# Altium footprint library WRTU.PcbLib: 55 footprints (part 2 of 4)
Each footprint in its own frame and in the unit in brackets; x right, y up, seen from the top. Pads: shape width x height; smd on the part's side, far side on the other; paste and mask are expansions set on the pad; w line width, h text height; cw(c..) or ccw(c..) is an arc to the next point about the centre after c.
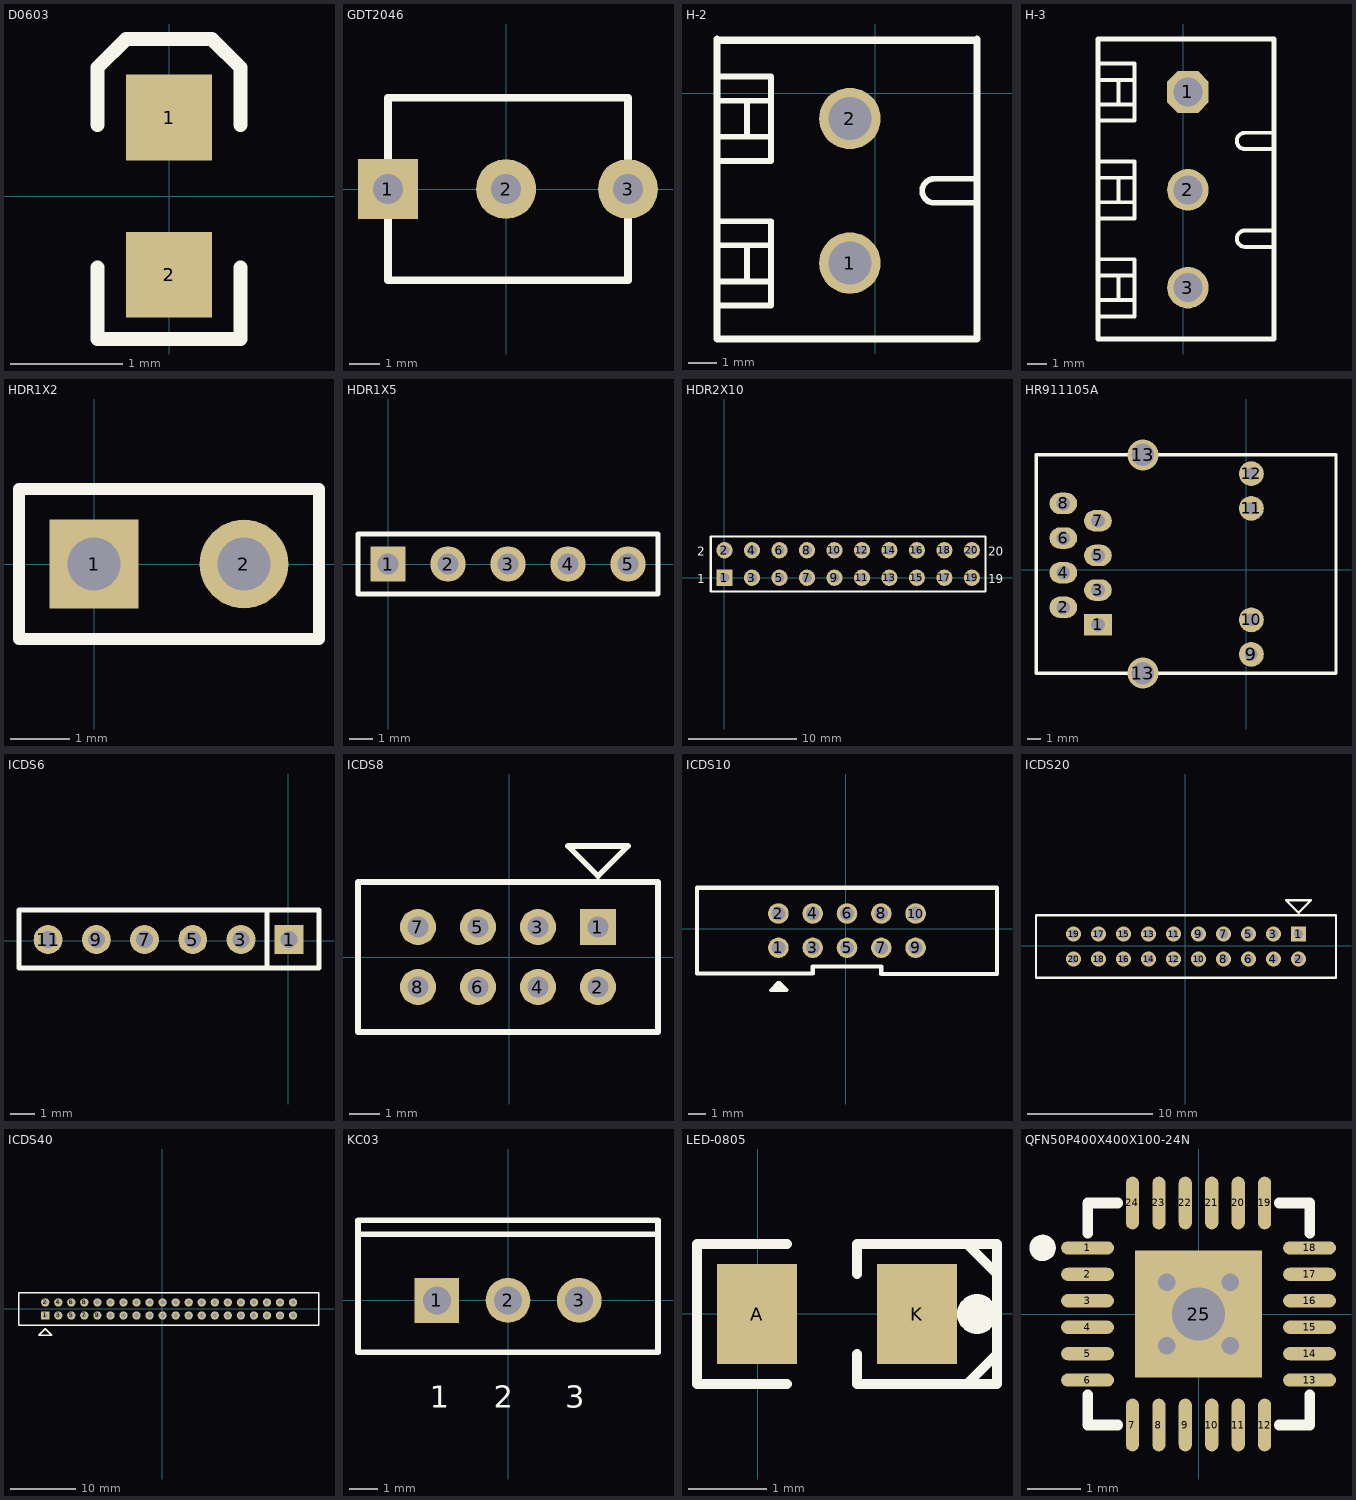
[diagram p1: the footprints below, top view; thin cyan lines are the x and y axes]

## D0603 [mil]
pads (2):
  rect 30x30 smd: 1(0,27.5) 2(0,-27.5)
Top Overlay:
  lines w5: -25,-25 -25,-50 25,-50 25,-25 ; -25,25 -25,45 -15,55 15,55 25,45 25,25

## GDT2046 [mm]
pads (3):
  rect 2x2 hole 1: 1(-3.937,0)
  round 2 hole 1: 2(0,0) 3(4.064,0)
Top Overlay:
  lines w0.254: -3.937,-3.048 -3.937,3.048 4.064,3.048 4.064,-3.048 -3.937,-3.048

## H-2 [mil]
pads (2):
  round 85 hole 59.49: 1(-35,-235) 2(-35,-35)
Top Overlay:
  lines w8: -219,-293.67 -144,-293.67 -144,-177 -219,-177 ; -219,-260.33 -144,-260.33 ; -219,-210.33 -144,-210.33 ; -219,-93.67 -144,-93.67 -144,23 -219,23 ; -219,-60.33 -144,-60.33 ; -219,-10.33 -144,-10.33 ; -177.33,-260.33 -177.33,-210.33 ; -177.33,-60.33 -177.33,-10.33 ; 140,-151.67 81.67,-151.67 cw(c81.67,-135) 81.67,-118.33 140,-118.33
  lines w10: -219,73.33 140,73.33 ; -219,75 -219,-340 140,-340 ; 141,-340 141,75

## H-3 [mil]
pads (3):
  oct 85x85 hole 59.49: 1(10,1425)
  round 85 hole 59.49: 2(10,1225) 3(10,1025)
Top Overlay:
  lines w8: -174,966.33 -99,966.33 -99,1083 -174,1083 ; -174,999.67 -99,999.67 ; -174,1049.67 -99,1049.67 ; -174,1166.33 -99,1166.33 -99,1283 -174,1283 ; -174,1199.67 -99,1199.67 ; -174,1249.67 -99,1249.67 ; -174,1366.33 -99,1366.33 -99,1483 -174,1483 ; -174,1399.67 -99,1399.67 ; -174,1449.67 -99,1449.67 ; -132.33,999.67 -132.33,1049.67 ; -132.33,1199.67 -132.33,1249.67 ; -132.33,1399.67 -132.33,1449.67 ; 185,1108.33 126.67,1108.33 cw(c126.67,1125) 126.67,1141.67 185,1141.67 ; 185,1308.33 126.67,1308.33 cw(c126.67,1325) 126.67,1341.67 185,1341.67
  lines w10: 185,920 -174,920 -174,1533.33 185,1533.33 ; 186,920 186,1533.33

## HDR1X2 [mm] "Connector; Header; 2 Position"
pads (2):
  rect 1.5x1.5 hole 0.9: 1(0,0)
  round 1.5 hole 0.9: 2(2.54,0)
Top Overlay:
  lines w0.2: -1.27,-1.27 3.81,-1.27 3.81,1.27 -1.27,1.27 -1.27,-1.27

## HDR1X5 [mm] "Connector; Header; 5 Position"
pads (5):
  rect 1.5x1.5 hole 0.9: 1(0,0)
  round 1.5 hole 0.9: 2(2.54,0) 3(5.08,0) 4(7.62,0) 5(10.16,0)
Top Overlay:
  lines w0.2: -1.27,-1.27 -1.27,1.27 11.43,1.27 11.43,-1.27 -1.27,-1.27

## HDR2X10 [mm] "Connector; Header; 10x2 Position"
pads (20):
  rect 1.5x1.5 hole 0.9: 1(0,0)
  round 1.5 hole 0.9: 2(0,2.54) 3(2.54,0) 4(2.54,2.54) 5(5.08,0) 6(5.08,2.54) 7(7.62,0) 8(7.62,2.54) 9(10.16,0) 10(10.16,2.54) 11(12.7,0) 12(12.7,2.54) 13(15.24,0) 14(15.24,2.54) 15(17.78,0) 16(17.78,2.54) 17(20.32,0) 18(20.32,2.54) 19(22.86,0) 20(22.86,2.54)
Top Overlay:
  lines w0.2: -1.27,-1.27 0.635,-1.27 24.13,-1.27 24.13,3.81 0.635,3.81 -1.27,3.81 -1.27,-1.27
  text "20" at 24.384,2.032 h0.8
  text "19" at 24.384,-0.508 h0.8
  text "1" at -2.54,-0.508 h0.8
  text "2" at -2.54,2.032 h0.8

## HR911105A [mil] "HR911105A"
pads (14):
  rect 80x62 hole 40: 1(-429,-159)
  oval 80x62 hole 40: 2(-529,-109) 3(-429,-59) 4(-529,-9) 5(-429,41) 6(-529,91) 7(-429,141) 8(-529,191)
  round 72 hole 36: 9(13.91,-244.63) 10(13.91,-145) 11(13.91,176.87) 12(13.91,277)
  round 90 hole 65: 13(-299.08,-298.76) 13(-299.08,331.16)
Top Overlay:
  lines w10: -607.74,-299 -607.5,-298.76 ; -607.74,331 -607.58,331.16 ; -607.58,331.16 -299.08,331.16 258.24,331.16 258.4,331 258.4,-299 258.17,-298.76 -299.08,-298.76 -607.5,-298.76 ; -607.58,331.16 -607.58,-298.69 -607.5,-298.76
Multi-Layer:
  circle w5: c-169,-209 r70.8
  circle w5: c-169,241 r70.8

## ICDS6 [mm]
pads (6):
  rect 1.2x1.2 hole 0.7: 1(0.032,0.039)
  round 1.2 hole 0.7: 3(-1.968,0.039) 5(-3.968,0.039) 7(-5.968,0.039) 9(-7.968,0.039) 11(-9.968,0.039)
Top Overlay:
  lines w0.2: -0.889,-1.143 -0.889,1.27 ; -11.176,-1.143 1.27,-1.143 1.27,1.27 -11.176,1.27 -11.176,-1.143

## ICDS8 [mm]
pads (8):
  rect 1.2x1.2 hole 0.7: 1(2.963,1)
  round 1.2 hole 0.7: 2(2.963,-1) 3(0.963,1) 4(0.963,-1) 5(-1.037,1) 6(-1.037,-1) 7(-3.037,1) 8(-3.037,-1)
Top Overlay:
  lines w0.2: -5.037,-2.5 -5.037,2.5 4.963,2.5 4.963,-2.5 -5.037,-2.5 ; 1.963,3.7 2.963,2.7 3.963,3.7 1.963,3.7

## ICDS10 [mm]
pads (10):
  round 1.2 hole 0.8: 1(-3.932,-1.117) 2(-3.932,0.883) 3(-1.932,-1.117) 4(-1.932,0.883) 5(0.068,-1.117) 6(0.068,0.883) 7(2.068,-1.117) 8(2.068,0.883) 9(4.068,-1.117) 10(4.068,0.883)
Top Overlay:
  lines w0.2: -3.62,-3.404 -4.167,-3.404 -4.18,-3.391 -3.826,-3.391 -3.73,-3.294 -3.73,-3.365 -3.957,-3.592 -3.957,-3.167 -3.932,-3.142 ; -3.932,-3.142 -3.882,-3.142 -3.432,-3.592 -3.632,-3.592 -4.382,-3.592 -3.932,-3.142
  lines w0.254: 8.818,-2.642 2.068,-2.642 2.068,-2.213 -1.932,-2.213 -1.932,-2.617 -8.682,-2.617 -8.682,2.383 8.818,2.383 8.818,-2.617

## ICDS20 [mm]
height 0.076
pads (20):
  rect 1.2x1.2 hole 0.7: 1(9.049,0.928)
  round 1.2 hole 0.7: 2(9.049,-1.072) 3(7.049,0.928) 4(7.049,-1.072) 5(5.049,0.928) 6(5.049,-1.072) 7(3.049,0.928) 8(3.049,-1.072) 9(1.049,0.928) 10(1.049,-1.072) 11(-0.951,0.928) 12(-0.951,-1.072) 13(-2.951,0.928) 14(-2.951,-1.072) 15(-4.951,0.928) 16(-4.951,-1.072) 17(-6.951,0.928) 18(-6.951,-1.072) 19(-8.951,0.928) 20(-8.951,-1.072)
Top Overlay:
  lines w0.2: -11.951,-2.572 -11.951,2.428 12.049,2.428 12.049,-2.572 -11.951,-2.572 ; 8.049,3.628 9.049,2.628 10.049,3.628 8.049,3.628

## ICDS40 [mm]
pads (40):
  rect 1.27x1.27 hole 0.7: 1(-17.913,-0.994)
  round 1.27 hole 0.7: 2(-17.913,1.006) 3(-15.913,-0.994) 4(-15.913,1.006) 5(-13.913,-0.994) 6(-13.913,1.006) 7(-11.913,-0.994) 8(-11.913,1.006) 9(-9.913,-0.994) 10(-9.913,1.006) 11(-7.913,-0.994) 12(-7.913,1.006) 13(-5.913,-0.994) 14(-5.913,1.006) 15(-3.913,-0.994) 16(-3.913,1.006) 17(-1.913,-0.994) 18(-1.913,1.006) 19(0.087,-0.994) 20(0.087,1.006) 21(2.087,-0.994) 22(2.087,1.006) 23(4.087,-0.994) 24(4.087,1.006) 25(6.087,-0.994) 26(6.087,1.006) 27(8.087,-0.994) 28(8.087,1.006) 29(10.087,-0.994) 30(10.087,1.006) 31(12.087,-0.994) 32(12.087,1.006) 33(14.087,-0.994) 34(14.087,1.006) 35(16.087,-0.994) 36(16.087,1.006) 37(18.087,-0.994) 38(18.087,1.006) 39(20.087,-0.994) 40(20.087,1.006)
Top Overlay:
  lines w0.2: -21.934,-2.494 -21.934,2.506 24.066,2.506 24.066,-2.494 -21.934,-2.494
  lines w0.254: -18.929,-4.042 -17.913,-3.026 -16.897,-4.042 -18.929,-4.042

## KC03 [mm] "TO, Thru-Hole, Vertical, Heatsink Mounted; 3 In-Line Leads; Pitch 2.54 mm"
height 22.2
pads (3):
  rect 1.6x1.6 hole 1: 1(-2.54,0)
  round 1.6 hole 1: 2(0,0) 3(2.54,0)
Top Overlay:
  lines w0.2: -5.35,2.35 5.35,2.35 ; -5.35,-1.85 -5.35,2.85 5.35,2.85 5.35,-1.85 -5.35,-1.85
  text "3" at 2.04,-3.825 h0.8
  text "1" at -2.79,-3.825 h0.8
  text "2" at -0.5,-3.825 h0.8

## LED-0805 [mil]
pads (3):
  rect 40x50 smd: A(-0.37,-0.08) K(79.63,-0.08)
  round 20 on Top Overlay: ""(109.63,-0.08)
Top Overlay:
  lines w5: 14.63,-35.08 -30.37,-35.08 -30.37,34.92 14.63,34.92 ; 49.63,-20.08 49.63,-35.08 109.63,-35.08 119.63,-35.08 119.63,34.92 109.63,34.92 49.63,34.92 49.63,19.92 ; 104.63,-35.08 119.63,-20.08 ; 104.63,34.92 119.63,19.92

## QFN50P400X400X100-24N [mm] "QFN, 24-Leads, Body 4.2x4.2mm (max), Pitch 0.50mm, IPC Medium Density"
height 1
pads (25):
  oval 1x0.25 smd: 1(-2.1,1.25) 2(-2.1,0.75) 3(-2.1,0.25) 4(-2.1,-0.25) 5(-2.1,-0.75) 6(-2.1,-1.25) 13(2.1,-1.25) 14(2.1,-0.75) 15(2.1,-0.25) 16(2.1,0.25) 17(2.1,0.75) 18(2.1,1.25)
  oval 0.25x1 smd: 7(-1.25,-2.1) 8(-0.75,-2.1) 9(-0.25,-2.1) 10(0.25,-2.1) 11(0.75,-2.1) 12(1.25,-2.1) 19(1.25,2.1) 20(0.75,2.1) 21(0.25,2.1) 22(-0.25,2.1) 23(-0.75,2.1) 24(-1.25,2.1)
  rect 2.4x2.4 smd: 25(0,0)
via 0,0 diameter 1 hole 1
via -0.6,-0.6 diameter 0.66 hole 0.33
via 0.6,-0.6 diameter 0.66 hole 0.33
via 0.6,0.6 diameter 0.66 hole 0.33
via -0.6,0.6 diameter 0.66 hole 0.33
Top Overlay:
  circle w0.25: c-2.95,1.25 r0.125
  lines w0.2: -2.1,-1.525 -2.1,-2.1 -1.525,-2.1 ; -2.1,1.525 -2.1,2.1 -1.525,2.1 ; 1.525,-2.1 2.1,-2.1 2.1,-1.525 ; 1.525,2.1 2.1,2.1 2.1,1.525